# EAGLE library part DB26 (library jack_connector)
Dsub-26 connector
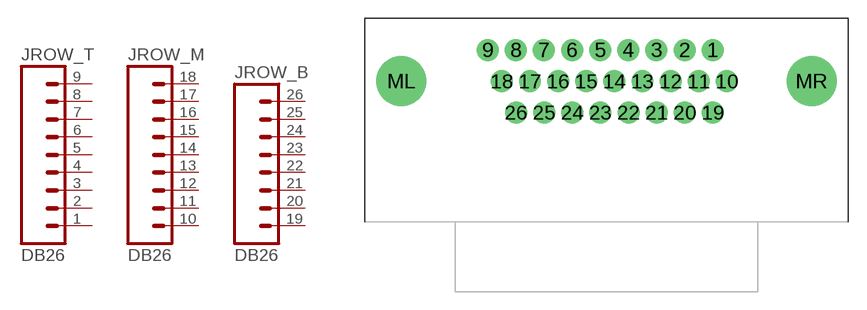
[diagram p16: symbol with the pads of L17HTHA; footprint L17HTHA]

Designator prefix J; gates ROW_T=M09 ROW_M=M09 ROW_B=M08

## DB26_RA-HD-PTH  [L17HTHA]
1  ROW_T:1  pas
2  ROW_T:2  pas
3  ROW_T:3  pas
4  ROW_T:4  pas
5  ROW_T:5  pas
6  ROW_T:6  pas
7  ROW_T:7  pas
8  ROW_T:8  pas
9  ROW_T:9  pas
10  ROW_M:1  pas
11  ROW_M:2  pas
12  ROW_M:3  pas
13  ROW_M:4  pas
14  ROW_M:5  pas
15  ROW_M:6  pas
16  ROW_M:7  pas
17  ROW_M:8  pas
18  ROW_M:9  pas
19  ROW_B:1  pas
20  ROW_B:2  pas
21  ROW_B:3  pas
22  ROW_B:4  pas
23  ROW_B:5  pas
24  ROW_B:6  pas
25  ROW_B:7  pas
26  ROW_B:8  pas

## Footprint L17HTHA (pad centres in mm)
Drawing for amphenol DB26, right angle, high density, through hole, board lock connector digikey <https://www.digikey.com/product-detail/en/amphenol-icc-commercial-products/L17HTHAS4F1C/L17HTHAS4F1C-ND/4884969> catalog with drawings <https://signin.amphenolcanada.com/ProductSearch/Pdf/DSUB_CAT.pdf#Page=71> see page 73
drill 1.19: 1 8.63,2.54; 2 6.345,2.54; 3 4.06,2.54; 4 1.775,2.54; 5 -0.51,2.54; 6 -2.795,2.54; 7 -5.08,2.54; 8 -7.365,2.54; 9 -9.65,2.54; 10 9.78,0; 11 7.495,0; 12 5.21,0; 13 2.925,0; 14 0.64,0; 15 -1.645,0; 16 -3.93,0; 17 -6.215,0; 18 -8.5,0; 19 8.65,-2.54; 20 6.365,-2.54; 21 4.08,-2.54; 22 1.795,-2.54; 23 -0.49,-2.54; 24 -2.775,-2.54; 25 -5.06,-2.54; 26 -7.345,-2.54
drill 3.05: ML -16.66,0; MR 16.66,0